# Altium schematic symbol library pin2x3.SchLib: 1 symbol
Pins are listed as number, name and electrical type; pins without a type are passive.

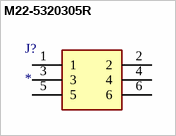
[diagram p0: symbol M22-5320305R]

## M22-5320305R
designator J?
Connector; Manufacturer_Name: Harwin; Manufacturer_Part_Number: M22-5320305R; Datasheet Link: https://cdn.harwin.com/pdfs/M22-532R.pdf; Height: 7.3mm
footprint M225320305R
pins: 1, 2, 3, 4, 5, 6